# EAGLE library part USBAS (library pel_misc)
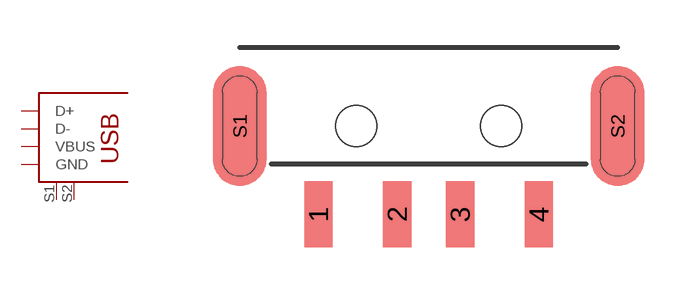
[diagram p5: symbol with the pads of USB_A_SMD+SHIELD; footprint USB_A_SMD+SHIELD]

Designator prefix X

## USBAS-PLUG-SMD  [USB_A_SMD+SHIELD]
1  VBUS
2  D-
3  D+
4  GND
S1  P$1
S2  P$2

## Footprint USB_A_SMD+SHIELD (pad centres in mm)
smd 0.9 x 2.1: 1 -3.5,-2.8; 2 -1,-2.8; 3 1,-2.8; 4 3.5,-2.8
smd 0.635 x 1.27: S1 -6,0; S2 6,0
hole 1.3 at -2.3,0
hole 1.3 at 2.3,0